# EAGLE library part ARDUINO_SHIELD (library ForceTronics)
Arduino Shield with IOREF and ATN pins
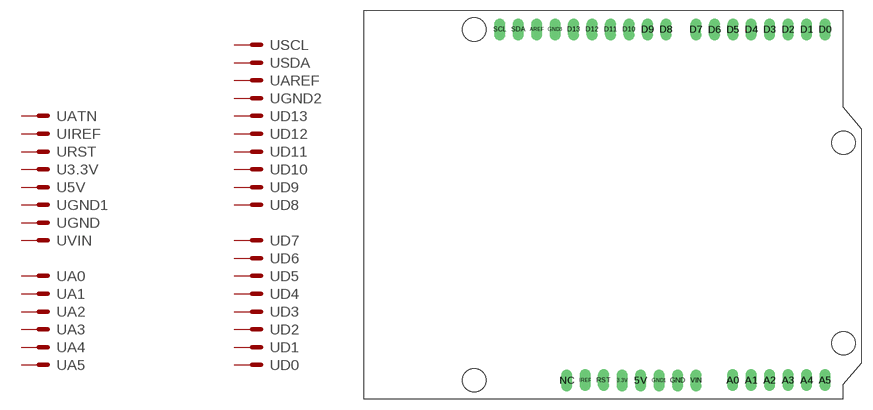
[diagram p6: symbol with the pads of ARDUINO_SHIELD; footprint ARDUINO_SHIELD]

Designator prefix -; gates D0=1PIN D1=1PIN D2=1PIN D3=1PIN D4=1PIN D5=1PIN D6=1PIN D7=1PIN D8=1PIN D9=1PIN D10=1PIN D11=1PIN D12=1PIN D13=1PIN GND2=1PIN AREF=1PIN SDA=1PIN SCL=1PIN A5=1PIN A4=1PIN A3=1PIN A2=1PIN A1=1PIN A0=1PIN VIN=1PIN GND=1PIN GND1=1PIN 5V=1PIN 3.3V=1PIN RST=1PIN IREF=1PIN ATN=1PIN

## ARDUINO_SHIELD  [ARDUINO_SHIELD]
3.3V  3.3V:S  pas
5V  5V:S  pas
A0  A0:S  pas
A1  A1:S  pas
A2  A2:S  pas
A3  A3:S  pas
A4  A4:S  pas
A5  A5:S  pas
AREF  AREF:S  pas
D0  D0:S  pas
D1  D1:S  pas
D2  D2:S  pas
D3  D3:S  pas
D4  D4:S  pas
D5  D5:S  pas
D6  D6:S  pas
D7  D7:S  pas
D8  D8:S  pas
D9  D9:S  pas
D10  D10:S  pas
D11  D11:S  pas
D12  D12:S  pas
D13  D13:S  pas
GND  GND:S  pas
GND1  GND1:S  pas
GND3  GND2:S  pas
IREF  IREF:S  pas
NC  ATN:S  pas
RST  RST:S  pas
SCL  SCL:S  pas
SDA  SDA:S  pas
VIN  VIN:S  pas

## Footprint ARDUINO_SHIELD (pad centres in mm)
Arduino Shield
drill 1 long: 3.3V 35.585,2.515; 5V 38.125,2.515; A0 50.8,2.54; A1 53.34,2.54; A2 55.88,2.54; A3 58.42,2.54; A4 60.96,2.54; A5 63.5,2.54; AREF 23.812,50.813; D0 63.5,50.8; D1 60.96,50.8; D2 58.42,50.8; D3 55.88,50.8; D4 53.34,50.8; D5 50.825,50.775; D6 48.285,50.775; D7 45.72,50.8; D8 41.593,50.813; D9 39.053,50.813; D10 36.513,50.813; D11 33.972,50.813; D12 31.433,50.813; D13 28.892,50.813; GND 43.205,2.515; GND1 40.665,2.515; GND3 26.352,50.813; IREF 30.48,2.54; NC 27.965,2.515; RST 33.02,2.54; SCL 18.733,50.813; SDA 21.273,50.813; VIN 45.745,2.515
hole 3.2 at 66.022,7.614
hole 3.2 at 66.032,35.204
hole 3.2 at 15.22,50.785
hole 3.2 at 15.225,2.547